# Altium footprint library RGB.PcbLib: 1 footprints
Each footprint in its own frame and in the unit in brackets; x right, y up, seen from the top. Pads: shape width x height; smd on the part's side, far side on the other; paste and mask are expansions set on the pad; w line width, h text height; cw(c..) or ccw(c..) is an arc to the next point about the centre after c.
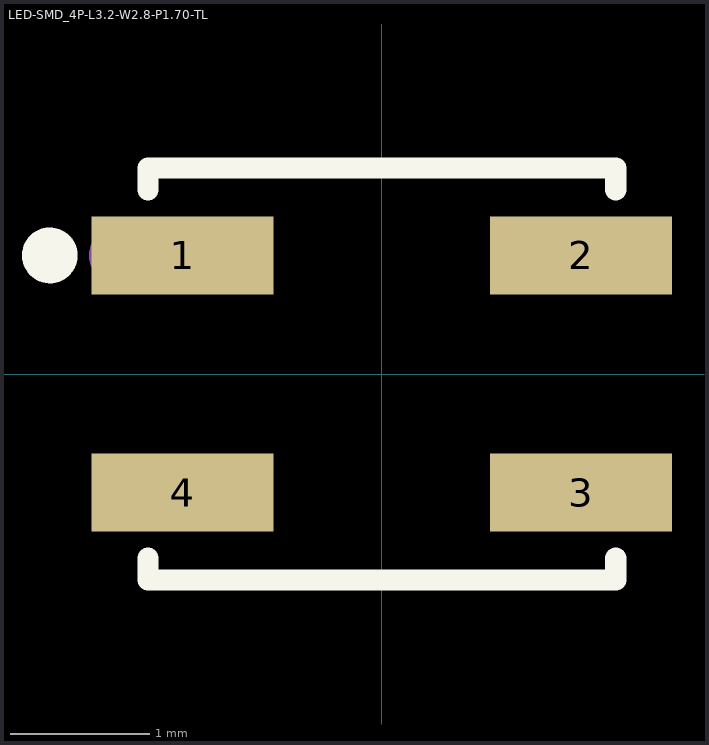
[diagram p0: the footprint, top view; thin cyan lines are the x and y axes]

## LED-SMD_4P-L3.2-W2.8-P1.70-TL [mm]
pads (4):
  rect 1.305x0.56 smd: 1(-1.428,0.85) 2(1.428,0.85) 3(1.428,-0.85) 4(-1.428,-0.85)
Mid-Layer 2:
  circle w0.06: c-1.6,-1.4 r0.03
Top Overlay:
  circle w0.2: c-2.38,0.85 r0.1
  lines w0.152: -1.676,-1.32 -1.676,-1.476 1.676,-1.476 1.676,-1.32 ; -1.676,1.32 -1.676,1.476 1.676,1.476 1.676,1.32
Mechanical 15:
  drawing of 109 lines, arcs and shapes, not listed